# EAGLE library part LTV-827S-TA1 (library LTV-827S-TA1)
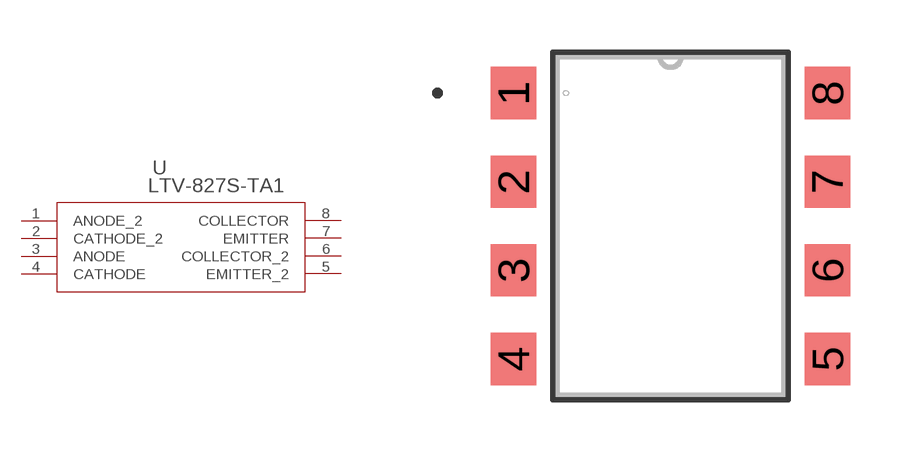
[diagram p0: symbol with the pads of LVT-827S; footprint LVT-827S]

Designator prefix U

## LTV-827S-TA1 (MANUFACTURER_PART_NUMBER: LTV827STA1; VENDOR: LiteOn)  [LVT-827S]
1  ANODE_2  pas
2  CATHODE_2  pas
3  ANODE  pas
4  CATHODE  pas
5  EMITTER_2  pas
6  COLLECTOR_2  pas
7  EMITTER  pas
8  COLLECTOR  pas

## Footprint LVT-827S (pad centres in mm)
smd 1.3 x 1.5: 1 -4.5,3.81; 2 -4.5,1.27; 3 -4.5,-1.27; 4 -4.5,-3.81; 5 4.5,-3.81; 6 4.5,-1.27; 7 4.5,1.27; 8 4.5,3.81